# EAGLE library part ESP8266 (library WorTel2023_Library)
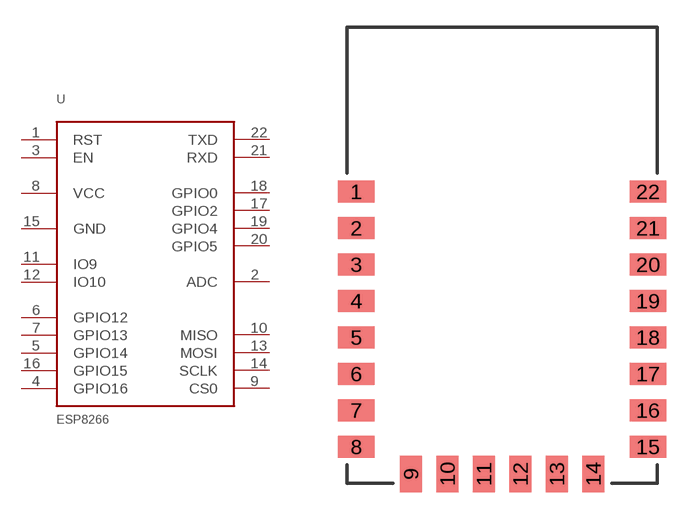
[diagram p0: symbol with the pads of ESP-12F; footprint ESP-12F]

Designator prefix -

## ESP8266  [ESP-12F]
1  RST
2  ADC
3  EN
4  GPIO16
5  GPIO14
6  GPIO12
7  GPIO13
8  VCC
9  CS0
10  MISO
11  IO9
12  IO10
13  MOSI
14  SCLK
15  GND
16  GPIO15
17  GPIO2
18  GPIO0
19  GPIO4
20  GPIO5
21  RXD
22  TXD

## Footprint ESP-12F (pad centres in mm)
smd 2 x 1.2: 1 -8,3.48; 2 -8,1.48; 3 -8,-0.52; 4 -8,-2.52; 5 -8,-4.52; 6 -8,-6.52; 7 -8,-8.52; 8 -8,-10.52; 15 8,-10.52; 16 8,-8.52; 17 8,-6.52; 18 8,-4.52; 19 8,-2.52; 20 8,-0.52; 21 8,1.48; 22 8,3.48
smd 1.2 x 2: 9 -5,-12; 10 -3,-12; 11 -1,-12; 12 1,-12; 13 3,-12; 14 5,-12